# Altium footprint library PCB_library.PcbLib: 36 footprints (part 1 of 3)
Each footprint in its own frame and in the unit in brackets; x right, y up, seen from the top. Pads: shape width x height; smd on the part's side, far side on the other; paste and mask are expansions set on the pad; w line width, h text height; cw(c..) or ccw(c..) is an arc to the next point about the centre after c.
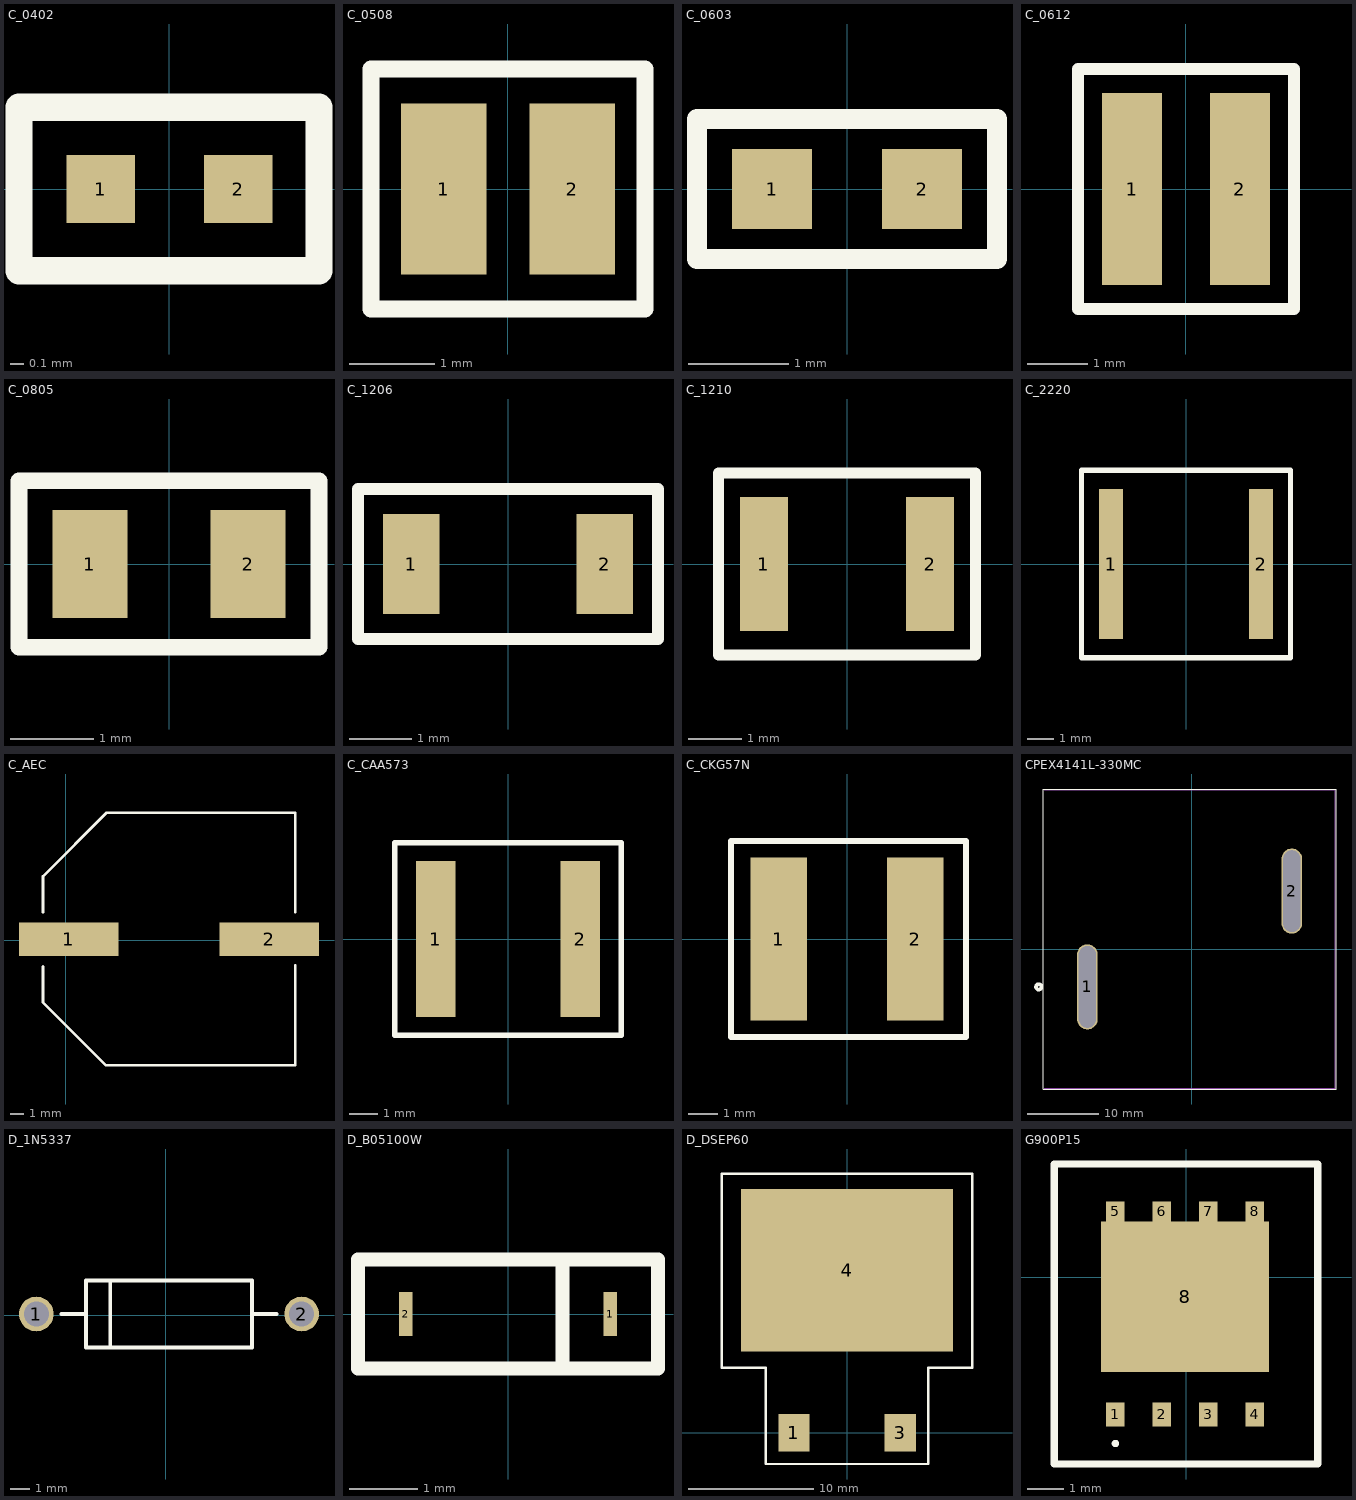
[diagram p0: the footprints below, top view; thin cyan lines are the x and y axes]

## C_0402 [mm]
pads (2):
  rect 0.5x0.5 smd: 1(-0.5,0) 2(0.508,0)
Top Overlay:
  lines w0.2: -1.1,-0.6 1.1,-0.6 1.1,0.6 -1.1,0.6 -1.1,-0.6

## C_0508 [mm]
pads (2):
  rect 1x2 smd: 1(-0.75,0) 2(0.75,0)
Top Overlay:
  lines w0.2: -1.6,-1.4 1.6,-1.4 1.6,1.4 -1.6,1.4 -1.6,-1.15 -1.6,-1.4

## C_0603 [mm]
pads (2):
  rect 0.8x0.8 smd: 1(-0.75,0) 2(0.75,0)
Top Overlay:
  lines w0.2: -1.5,-0.7 1.5,-0.7 1.5,0.7 -1.5,0.7 -1.5,-0.7

## C_0612 [mm]
pads (2):
  rect 1x3.2 smd: 1(-0.9,0) 2(0.9,0)
Top Overlay:
  lines w0.2: -1.8,-2 1.8,-2 1.8,2 -1.8,2 -1.8,-0.5 -1.8,-2

## C_0805 [mm]
pads (2):
  rect 0.9x1.3 smd: 1(-0.95,0) 2(0.95,0)
Top Overlay:
  lines w0.2: -1.8,-1 -1.8,1 1.8,1 1.8,-1 -1.8,-1

## C_1206 [mm]
pads (2):
  rect 0.9x1.6 smd: 1(-1.55,0) 2(1.55,0)
Top Overlay:
  lines w0.2: -2.4,-1.2 2.4,-1.2 2.4,1.2 -2.4,1.2 -2.4,-1.2

## C_1210 [mm]
pads (2):
  rect 0.9x2.5 smd: 1(-1.55,0) 2(1.55,0)
Top Overlay:
  lines w0.2: -2.4,-1.7 -2.4,-0.85 -2.4,1.7 2.4,1.7 2.4,-1.7 -2.4,-1.7

## C_2220 [mm]
pads (2):
  rect 0.9x5.6 smd: 1(-2.8,0) 2(2.8,0)
Top Overlay:
  lines w0.2: -3.9,-3.5 3.9,-3.5 3.9,3.5 -3.9,3.5 -3.9,0.75 -3.9,-3.5

## C_AEC [mm]
pads (2):
  rect 7.5x2.5 smd: 1(0.24,0.054) 2(15.34,0.054)
Top Overlay:
  lines w0.2: -1.7,-2 -1.7,-4.7 3.046,-9.446 17.29,-9.446 ; -1.7,2.1 -1.7,4.8 3.1,9.6 17.3,9.6 17.3,2.1 ; 17.3,-9.4 17.3,-1.9
3D body "AFK227M2AR44T-F.stp": height 17, standoff 0, extent -2.71,-9.546 18.29,9.654

## C_CAA573 [mm]
pads (2):
  rect 1.4x5.5 smd: 1(-2.55,0) 2(2.55,0)
Top Overlay:
  lines w0.2: -4,-3.4 -4,0.6 -4,3.4 4,3.4 4,-3.4 -4,-3.4

## C_CKG57N [mm]
pads (2):
  rect 1.9x5.5 smd: 1(-2.3,0) 2(2.3,0)
Top Overlay:
  lines w0.2: -3.9,-3.3 -3.9,0.9 -3.9,3.3 4,3.3 4,-3.3 -3.9,-3.3

## CPEX4141L-330MC [mm]
pads (2):
  oval 2.896x12.014 hole 11.5 slot 2.388 at 0 deg paste-2539.97 mask+0: 1(-14.685,-5.325) 2(14.115,8.175)
Top Overlay:
  circle w0.508: c-21.545,-5.325 r0.381
  lines w0.152: -20.91,-19.708 -20.91,22.558 20.34,22.558 20.34,-19.708 -20.91,-19.708
Bottom Overlay:
  circle w0.508: c-21.545,-5.325 r0.381
Mechanical 13:
  circle w0.508: c-14.685,-3.42 r0.381
  lines w0.025: -20.783,-19.581 20.213,-19.581 20.213,22.431 -20.783,22.431

## D_1N5337 [mm]
pads (2):
  round 1.8 hole 1.3: 1(-6.71,0.053) 2(7.064,0.053)
Top Overlay:
  lines w0.2: -5.41,0.053 -4.14,0.053 ; -2.87,-1.692 -2.87,1.798 ; 4.494,0.053 5.764,0.053 ; -4.14,-1.692 -4.14,1.798 4.494,1.798 4.494,-1.692 -4.14,-1.692

## D_B05100W [mm]
pads (2):
  rect 0.2x0.65 smd: 1(1.5,0) 2(-1.5,0)
Top Overlay:
  lines w0.2: 0.8,-0.8 0.8,0.8 ; -2.2,-0.8 2.2,-0.8 2.2,0.8 -2.2,0.8 -2.2,-0.8

## D_DSEP60 [mm]
pads (3):
  rect 2.5x3 smd: 1(-4.25,0) 3(4.25,0)
  rect 17x13 smd: 4(0,13)
Top Overlay:
  lines w0.2: -10,5.2 -10,20.7 -8.45,20.7 -4.6,20.7 4.6,20.7 10,20.7 10,5.2 6.5,5.2 6.5,-2.5 -6.5,-2.5 -6.5,0 -6.5,5.2 -10,5.2

## G900P15 [mm]
pads (9):
  rect 0.5x0.65 smd: 1(-1.931,-3.745) 2(-0.661,-3.745) 3(0.609,-3.745) 4(1.879,-3.745)
  rect 0.5x0.55 smd: 5(-1.931,1.805) 6(-0.661,1.805) 7(0.609,1.805) 8(1.879,1.805)
  rect 4.6x4.12 smd: 8(-0.026,-0.53)
Top Overlay:
  lines w0.1: -1.931,-4.59 cw(c-1.931,-4.54) -1.931,-4.49 cw(c-1.931,-4.54) -1.931,-4.59
  lines w0.2: -3.6,-5.1 3.6,-5.1 3.6,3.1 -3.6,3.1 -3.6,-5.1
3D body "AON6500.stp": height 1.05, standoff 0, extent -2.701,-3.89 2.649,2.16